# EAGLE library part ATSAMD21G18AMU (library microcodes)
combined the ATSAMD21G18A-AU & ATSAMD21G18A-MU packages from snapeda into one, modified some pins.
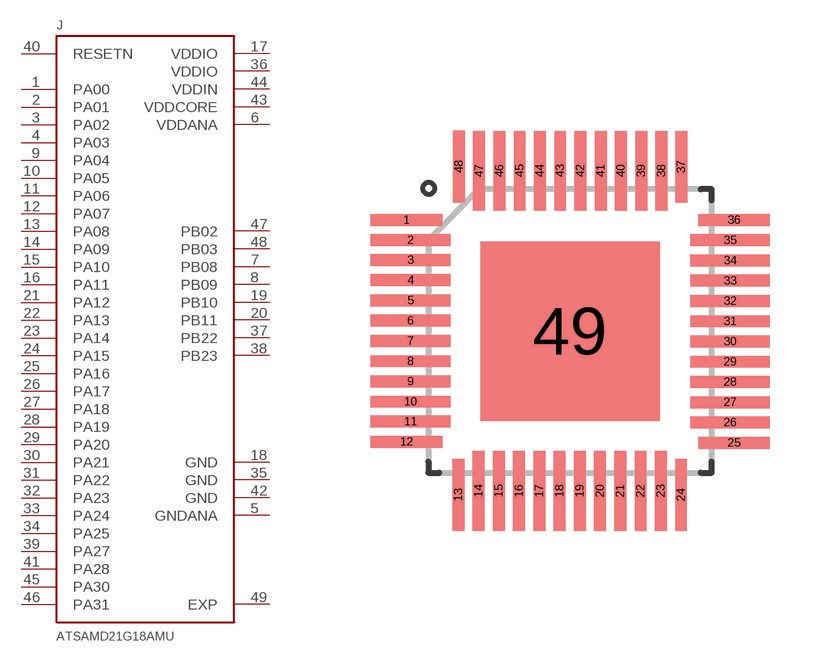
[diagram p5: symbol with the pads of QFN48; footprint QFN48]

Designator prefix J

## ATSAMD21G18AMU (DESCRIPTION: Cortex-M0+, 256KB FLASH, 32KB SRAM, USB, DMA, T&R - 48QFN, 1.6-3.6V, 48MHz.; PACKAGE: QFN-48 Microchip)  [QFN48]
1  PA00
2  PA01
3  PA02
4  PA03
5  GNDANA  pwr
6  VDDANA  pwr
7  PB08
8  PB09
9  PA04
10  PA05
11  PA06
12  PA07
13  PA08
14  PA09
15  PA10
16  PA11
17  VDDIO  pwr
18  GND  pwr
19  PB10
20  PB11
21  PA12
22  PA13
23  PA14
24  PA15
25  PA16
26  PA17
27  PA18
28  PA19
29  PA20
30  PA21
31  PA22
32  PA23
33  PA24
34  PA25
35  GND  pwr
36  VDDIO  pwr
37  PB22
38  PB23
39  PA27
40  RESETN  in
41  PA28
42  GND  pwr
43  VDDCORE  pwr
44  VDDIN  pwr
45  PA30
46  PA31
47  PB02
48  PB03
49  EXP  pwr

## Footprint QFN48 (pad centres in mm)
smd 1.8 x 0.3: 1 -4.104,2.783; 12 -4.102,-2.78; 25 4.113,-2.805; 36 4.115,2.785
smd 2 x 0.3: 2 -4.002,2.28; 3 -4.002,1.782; 4 -4.002,1.274; 5 -4.002,0.766; 6 -4.002,0.258; 7 -4.002,-0.25; 8 -4.002,-0.758; 9 -4.002,-1.266; 10 -4.002,-1.774; 11 -4.002,-2.272; 26 4.015,-2.295; 27 4.015,-1.787; 28 4.015,-1.279; 29 4.015,-0.771; 30 4.015,-0.263; 31 4.015,0.245; 32 4.015,0.753; 33 4.015,1.261; 34 4.015,1.769; 35 4.015,2.277
smd 0.3 x 1.8: 13 -2.802,-4.112; 24 2.786,-4.112; 37 2.79,4.12; 48 -2.789,4.126
smd 0.3 x 2: 14 -2.294,-4.012; 15 -1.786,-4.012; 16 -1.278,-4.012; 17 -0.77,-4.012; 18 -0.262,-4.012; 19 0.246,-4.012; 20 0.754,-4.012; 21 1.262,-4.012; 22 1.77,-4.012; 23 2.278,-4.012; 38 2.292,4.02; 39 1.784,4.02; 40 1.276,4.02; 41 0.768,4.02; 42 0.26,4.02; 43 -0.248,4.02; 44 -0.756,4.02; 45 -1.264,4.02; 46 -1.772,4.02; 47 -2.28,4.02
smd 4.5 x 4.5: 49 0,0